# Altium footprint library TVI-30-RM6-LP.PcbLib: 12 footprints (part 1 of 2)
Each footprint in its own frame and in the unit in brackets; x right, y up, seen from the top. Pads: shape width x height; smd on the part's side, far side on the other; paste and mask are expansions set on the pad; w line width, h text height; cw(c..) or ccw(c..) is an arc to the next point about the centre after c.
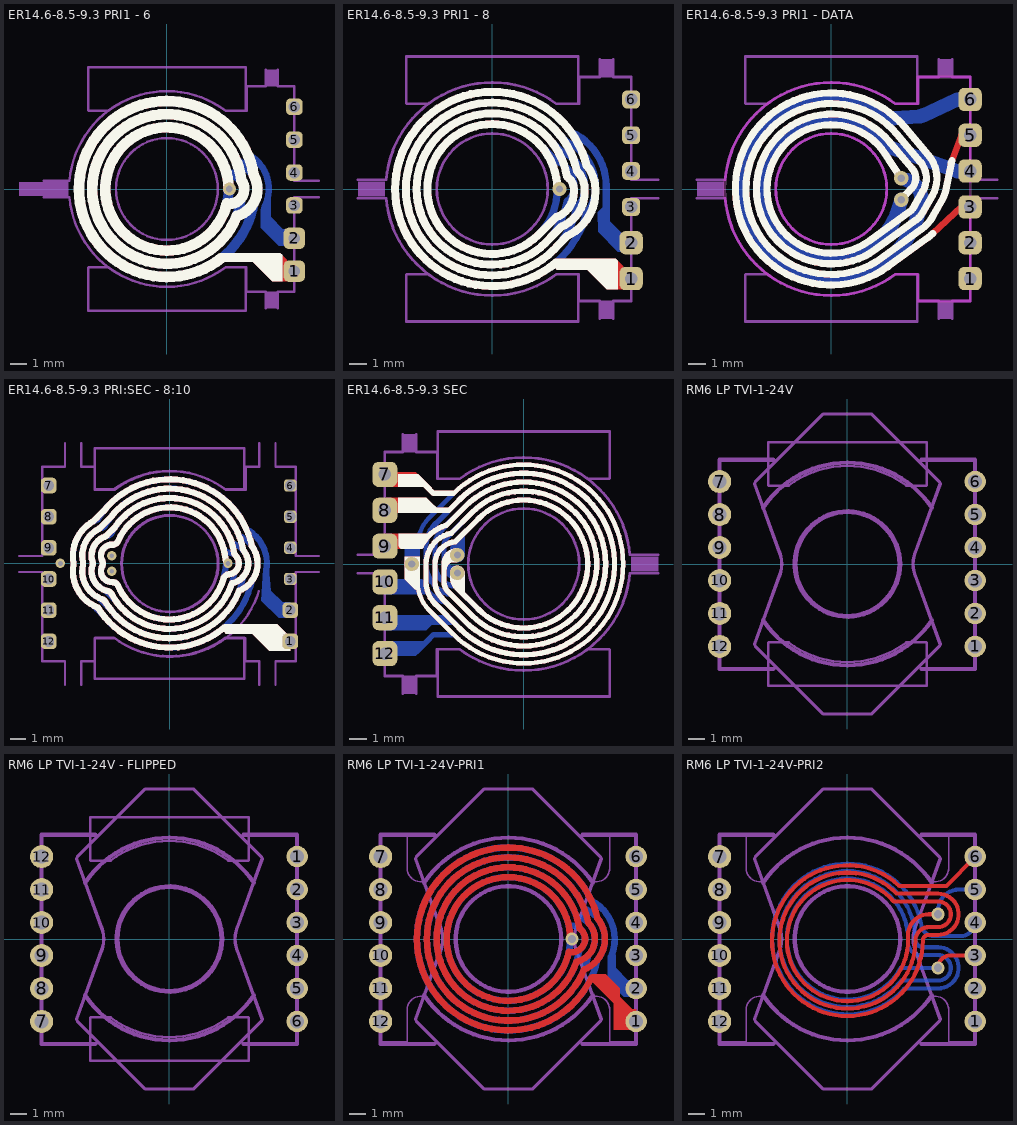
[diagram p0: the footprints below, top view; thin cyan lines are the x and y axes]

## ER14.6-8.5-9.3 PRI1 - 6 [mm]
pads (6):
  rrect50% 1.3x1.3 hole 0.7: 1(7.75,-5) 2(7.75,-3)
  rrect50% 1x1 hole 0.7: 3(7.75,-1) 4(7.75,1) 5(7.75,3) 6(7.75,5)
via 3.8,0 diameter 0.8 hole 0.4
Top Layer:
  region: 3.3,-3.9 6.9,-3.9 7.3,-4.3 7.3,-5.6 6.4,-5.6 5.225,-4.425 3.525,-4.425 3.3,-4.2
  lines w0.6: 3.309,-4.204 cw(c0,0) 5.282,0.851 ; 3.75,0 ccw(c0,0) 3.644,-0.886 ccw(c3.8,0) 4.519,0.542 ; 4.218,-1.707 cw(c0,0) 4.515,0.561 ; 4.254,-1.638 ccw(c3.8,0) 5.272,0.85
  text "1-A" at 5.3,5 h1
Bottom Layer:
  region: 5.7,-1.25 6.3,-0.65 6.3,-1.7 7.05,-2.45 7.55,-2.45 7.55,-3.45 6.8,-3.45 5.7,-2.35
  lines w0.4: 4.807,2.178 cw(c3.8,0) 6.038,-0.866 6.037,-0.868 cw(c3.8,0) 5.966,-1.035 5.958,-1.053 cw(c0,0) 5.901,-1.333
  lines w0.6: 3.75,0 cw(c0,0) 3.644,0.886 cw(c3.8,0) 4.519,-0.542 ; 4.218,1.707 ccw(c0,0) 4.515,-0.561 ; 4.254,1.638 cw(c3.8,0) 5.272,-0.85 ; 4.846,2.268 ccw(c0,0) 5.282,-0.851
  text "1-B" at 6.5,5 h1
Top Overlay:
  region: 3.3,-3.9 6.9,-3.9 7,-4 7,-5.6 6.4,-5.6 5.225,-4.425 3.525,-4.425 3.3,-4.2
  lines w0.65: 3.309,-4.204 cw(c0,0) 5.282,0.851 ; 3.75,0 ccw(c0,0) 3.644,-0.886 ccw(c3.8,0) 4.519,0.542 ; 4.218,-1.707 cw(c0,0) 4.515,0.561 ; 4.254,-1.638 ccw(c3.8,0) 5.272,0.85
Bottom Overlay:
  region: 5.7,-1.25 6.3,-0.65 6.3,-1.7 7.05,-2.45 7.55,-2.45 7.55,-3.45 6.8,-3.45 5.7,-2.35
  lines w0.55: 4.807,2.178 cw(c3.8,0) 6.038,-0.866 6.037,-0.868 cw(c3.8,0) 5.966,-1.035 5.958,-1.053 cw(c0,0) 5.901,-1.333
  lines w0.65: 3.75,0 cw(c0,0) 3.644,0.886 cw(c3.8,0) 4.519,-0.542 ; 4.218,1.707 ccw(c0,0) 4.515,-0.561 ; 4.254,1.638 cw(c3.8,0) 5.272,-0.85 ; 4.846,2.268 ccw(c0,0) 5.282,-0.851
Mechanical 1:
  region: 6,-6.25 6,-7.25 6.75,-7.25 6.75,-6.25
  region: 6.75,6.25 6.75,7.25 6,7.25 6,6.25
  region: -6,0.4 -9,0.4 -9,-0.4 -6,-0.4
Mechanical 2:
  circle w0.15: c0,0 r3.1
  lines w0.15: -7.5,-0.515 -5.928,-0.515 ccw(c0,0) 3.57,-4.76 4.825,-4.76 4.825,-6.25 6,-6.25 6,-7.25 ; -7.5,0.515 -5.928,0.515 cw(c0,0) 3.57,4.76 4.85,4.76 4.85,6.25 ; 4.825,6.25 6,6.25 6,7.25 ; 6.75,-7.25 6.75,-6.25 7.75,-6.25 7.75,-0.515 9.25,-0.515 ; 6.75,7.25 6.75,6.25 7.75,6.25 7.75,0.515 9.25,0.515
Mechanical 13:
  circle w0.15: c0,0 r3.1
  lines w0.15: -4.8,-7.4 4.8,-7.4 4.8,-4.79 4.77,-4.76 3.57,-4.76 cw(c0,0) -3.57,-4.76 -4.77,-4.76 -4.8,-4.79 -4.8,-7.4 ; -4.8,4.79 -4.8,7.4 4.8,7.4 4.8,4.79 4.77,4.76 3.57,4.76 ccw(c0,0) -3.57,4.76 -4.77,4.76 -4.8,4.79
3D body "ER14.6-8.5-9.3 (1).STEP": height 1.25, standoff -3, extent -4.7,-7.3 4.7,7.3

## ER14.6-8.5-9.3 PRI1 - 8 [mm]
pads (6):
  rrect50% 1.3x1.3 hole 0.7: 1(7.75,-5) 2(7.75,-3)
  rrect50% 1x1 hole 0.7: 3(7.75,-1) 4(7.75,1) 5(7.75,3) 6(7.75,5)
via 3.75,0 diameter 0.8 hole 0.4
Top Layer:
  region: 3.5,-3.9 6.9,-3.9 7.3,-4.3 7.3,-5.6 6.4,-5.6 5.3,-4.5 3.6,-4.5 3.5,-4.4
  lines w0.4: 3.513,-1.613 2.563,-2.563 cw(c0,0) -3.625,0 cw(c0,0) 0,3.625 cw(c0,0) 3.625,0 ; 3.54,-4.111 cw(c0,0) -5.425,0 cw(c0,0) 0,5.425 cw(c0,0) 5.26,1.328 ; 3.562,-1.579 ccw(c3.058,-0.166) 4.558,-0.166 4.558,-0.008 4.55,0 ccw(c3.75,0) 4.186,0.671 ; 3.841,-2.116 3.213,-2.743 cw(c0,0) -4.225,0 cw(c0,0) 0,4.225 cw(c0,0) 4.166,0.703 ; 3.863,-2.105 ccw(c3.058,-0.166) 5.158,-0.166 5.158,-0.008 5.15,0 ccw(c3.75,0) 4.727,1.002 ; 4.177,-2.627 3.663,-3.14 cw(c0,0) -4.825,0 cw(c0,0) 0,4.825 cw(c0,0) 4.715,1.023 ; 4.186,-2.619 ccw(c3.058,-0.166) 5.758,-0.166 5.758,-0.008 5.75,0 ccw(c3.75,0) 5.272,1.297
  text "1-A" at 5.325,5 h1
Bottom Layer:
  region: 5.9,-1.3 6.5,-0.7 6.5,-1.75 7.25,-2.5 7.75,-2.5 7.75,-3.5 7,-3.5 5.9,-2.4
  lines w0.4: 3.513,1.613 2.563,2.563 ccw(c0,0) -3.625,0 ccw(c0,0) 0,-3.625 ccw(c0,0) 3.625,0 ; 3.562,1.579 cw(c3.058,0.166) 4.558,0.166 4.558,0.008 4.55,0 cw(c3.75,0) 4.186,-0.671 ; 3.841,2.116 3.213,2.743 ccw(c0,0) -4.225,0 ccw(c0,0) 0,-4.225 ccw(c0,0) 4.166,-0.703 ; 3.863,2.105 cw(c3.058,0.166) 5.158,0.166 5.158,0.008 5.15,0 cw(c3.75,0) 4.727,-1.002 ; 4.177,2.627 3.663,3.14 ccw(c0,0) -4.825,0 ccw(c0,0) 0,-4.825 ccw(c0,0) 4.715,-1.023 ; 4.186,2.619 cw(c3.058,0.166) 5.758,0.166 5.758,0.008 5.75,0 cw(c3.75,0) 5.272,-1.297 ; 4.387,3.191 ccw(c0,0) -5.425,0 ccw(c0,0) 0,-5.425 ccw(c0,0) 5.26,-1.328 ; 4.402,3.18 cw(c3.058,0.166) 6.358,0.166 6.358,-1.958 6.7,-2.3
  text "1-B" at 6.5,5 h1
Top Overlay:
  region: 3.5,-3.9 6.9,-3.9 7,-4 7,-5.6 6.4,-5.6 5.3,-4.5 3.6,-4.5 3.5,-4.4
  lines w0.45: 3.513,-1.613 2.563,-2.563 cw(c0,0) -3.625,0 cw(c0,0) 0,3.625 cw(c0,0) 3.625,0 ; 3.54,-4.111 cw(c0,0) -5.425,0 cw(c0,0) 0,5.425 cw(c0,0) 5.26,1.328 ; 3.562,-1.579 ccw(c3.058,-0.166) 4.558,-0.166 4.558,-0.008 4.55,0 ccw(c3.75,0) 4.186,0.671 ; 3.841,-2.116 3.213,-2.743 cw(c0,0) -4.225,0 cw(c0,0) 0,4.225 cw(c0,0) 4.166,0.703 ; 3.863,-2.105 ccw(c3.058,-0.166) 5.158,-0.166 5.158,-0.008 5.15,0 ccw(c3.75,0) 4.727,1.002 ; 4.177,-2.627 3.663,-3.14 cw(c0,0) -4.825,0 cw(c0,0) 0,4.825 cw(c0,0) 4.715,1.023 ; 4.186,-2.619 ccw(c3.058,-0.166) 5.758,-0.166 5.758,-0.008 5.75,0 ccw(c3.75,0) 5.272,1.297
Bottom Overlay:
  region: 5.9,-1.3 6.5,-0.7 6.5,-1.75 7.25,-2.5 7.75,-2.5 7.75,-3.5 7,-3.5 5.9,-2.4
  lines w0.45: 3.513,1.613 2.563,2.563 ccw(c0,0) -3.625,0 ccw(c0,0) 0,-3.625 ccw(c0,0) 3.625,0 ; 3.562,1.579 cw(c3.058,0.166) 4.558,0.166 4.558,0.008 4.55,0 cw(c3.75,0) 4.186,-0.671 ; 3.841,2.116 3.213,2.743 ccw(c0,0) -4.225,0 ccw(c0,0) 0,-4.225 ccw(c0,0) 4.166,-0.703 ; 3.863,2.105 cw(c3.058,0.166) 5.158,0.166 5.158,0.008 5.15,0 cw(c3.75,0) 4.727,-1.002 ; 4.177,2.627 3.663,3.14 ccw(c0,0) -4.825,0 ccw(c0,0) 0,-4.825 ccw(c0,0) 4.715,-1.023 ; 4.186,2.619 cw(c3.058,0.166) 5.758,0.166 5.758,0.008 5.75,0 cw(c3.75,0) 5.272,-1.297 ; 4.387,3.191 ccw(c0,0) -5.425,0 ccw(c0,0) 0,-5.425 ccw(c0,0) 5.26,-1.328 ; 4.402,3.18 cw(c3.058,0.166) 6.358,0.166 6.358,-1.958 6.7,-2.3
Mechanical 1:
  region: -6,0.4 -7.5,0.4 -7.5,-0.4 -6,-0.4
  region: 6.75,6.25 6.75,7.25 6,7.25 6,6.25
  region: 6,-6.25 6,-7.25 6.75,-7.25 6.75,-6.25
Mechanical 2:
  circle w0.15: c0,0 r3.1
  lines w0.15: -7.5,-0.515 -5.928,-0.515 ccw(c0,0) 3.57,-4.76 4.825,-4.76 4.825,-6.25 6,-6.25 6,-7.25 ; -7.5,0.515 -5.928,0.515 cw(c0,0) 3.57,4.76 4.85,4.76 4.85,6.25 ; 4.825,6.25 6,6.25 6,7.25 ; 6.75,-7.25 6.75,-6.25 7.75,-6.25 7.75,-0.515 9.25,-0.515 ; 6.75,7.25 6.75,6.25 7.75,6.25 7.75,0.515 9.25,0.515
Mechanical 13:
  circle w0.15: c0,0 r3.1
  lines w0.15: -4.8,-7.4 -4.8,-4.79 -4.77,-4.76 -3.57,-4.76 ccw(c0,0) 3.57,-4.76 4.77,-4.76 4.8,-4.79 4.8,-7.4 -4.8,-7.4 ; -4.8,4.79 -4.77,4.76 -3.57,4.76 cw(c0,0) 3.57,4.76 4.77,4.76 4.8,4.79 4.8,7.4 -4.8,7.4 -4.8,4.79
3D body "ER14.6-8.5-9.3 (1).STEP": height 1.25, standoff -3, extent -4.7,-7.3 4.7,7.3

## ER14.6-8.5-9.3 PRI1 - DATA [mm]
pads (6):
  rrect50% 1.3x1.3 hole 0.7: 1(7.75,-5) 2(7.75,-3) 3(7.75,-1) 4(7.75,1) 5(7.75,3) 6(7.75,5)
via 3.9,0.6 diameter 0.8 hole 0.4
via 3.9,-0.6 diameter 0.8 hole 0.4
Top Layer:
  lines w0.35: 1.849,3.077 cw(c0,0) 3.004,1.966 3.004,1.965 ; 3.9,-0.6 4.498,0.046 ccw(c3.9,0.6) 4.521,1.128 3.193,2.698 ccw(c0,0) 2.454,-3.384 4.724,-1.738 ccw(c3.9,-0.6) 5.123,-1.291 5.637,-0.382 ccw(c3.9,0.6) 5.422,1.89 4.093,3.46 ccw(c0,0) 3.149,-4.337 5.417,-2.693 ccw(c3.9,-0.6) 5.664,-2.49 7.26,-1 ; 3.9,0.6 3.004,1.965 ; 7.75,3 7.26,3 6.732,1.584 ccw(c7.425,1.325) 6.698,1.465 6.439,0.112 cw(c3.9,0.6) 6.151,-0.671 5.638,-1.58 cw(c3.9,-0.6) 5.071,-2.215 2.802,-3.86 cw(c0,0) 3.645,3.077 4.971,1.509 cw(c3.9,0.6) 5.123,-0.091 4.61,-1.001 cw(c3.9,-0.6) 4.378,-1.26 2.107,-2.906 cw(c0,0) 3.004,1.965
  text "3-A" at 5.25,5 h1
Bottom Layer:
  lines w0.8: 3.9,-0.6 3.766,-1.071 cw(c0,0) 2.979,2.54 ; 4.255,0.483 cw(c3.9,-0.6) 4.996,-0.913 4.862,-1.383 cw(c0,0) 4.617,-2.058 cw(c0,0) -2.146,-4.577 cw(c0,0) 2.959,4.099 ; 7.035,1 3.323,2.304 cw(c3.588,3.059) 2.979,2.54 ; 7.035,5 5.127,4.112 cw(c4.825,4.76) 4.875,4.047 3.483,3.949 cw(c3.427,4.747) 2.959,4.099 ; 2.959,4.099 2.959,4.099 ; 2.979,2.54 2.979,2.54
  text "3-B" at 6.5,-5 h1
Top Overlay:
  lines w0.4: 1.849,3.077 cw(c0,0) 3.004,1.966 3.004,1.965 ; 3.9,-0.6 4.498,0.046 ccw(c3.9,0.6) 4.521,1.128 3.193,2.698 ccw(c0,0) 2.454,-3.384 4.724,-1.738 ccw(c3.9,-0.6) 5.123,-1.291 5.637,-0.382 ccw(c3.9,0.6) 5.422,1.89 4.093,3.46 ccw(c0,0) 3.149,-4.337 5.417,-2.693 ccw(c3.9,-0.6) 5.664,-2.49 ; 3.9,0.6 3.004,1.965 ; 6.732,1.584 ccw(c7.425,1.325) 6.698,1.465 6.439,0.112 cw(c3.9,0.6) 6.151,-0.671 5.638,-1.58 cw(c3.9,-0.6) 5.071,-2.215 2.802,-3.86 cw(c0,0) 3.645,3.077 4.971,1.509 cw(c3.9,0.6) 5.123,-0.091 4.61,-1.001 cw(c3.9,-0.6) 4.378,-1.26 2.107,-2.906 cw(c0,0) 3.004,1.965
Bottom Overlay:
  lines w0.85: 3.9,-0.6 3.766,-1.071 cw(c0,0) 2.979,2.54 ; 4.255,0.483 cw(c3.9,-0.6) 4.996,-0.913 4.862,-1.383 cw(c0,0) 4.617,-2.058 cw(c0,0) -2.146,-4.577 cw(c0,0) 2.959,4.099 ; 5.127,4.112 cw(c4.825,4.76) 4.875,4.047 3.483,3.949 cw(c3.427,4.747) 2.959,4.099 ; 6.481,1.195 3.323,2.304 cw(c3.588,3.059) 2.979,2.54 ; 2.959,4.099 2.959,4.099 ; 2.979,2.54 2.979,2.54
Keep-Out Layer:
  circle w0.15: c0,0 r3.1
  lines w0.15: 3.57,-4.76 cw(c0,0) 3.57,4.76 4.825,4.76 4.825,6.25 7.75,6.25 7.75,0 7.75,-6.25 4.85,-6.25 4.85,-4.76 3.57,-4.76
Mechanical 1:
  region: 6,-6.25 6,-7.25 6.75,-7.25 6.75,-6.25
  region: 6.75,6.25 6.75,7.25 6,7.25 6,6.25
  region: -6,0.4 -7.5,0.4 -7.5,-0.4 -6,-0.4
Mechanical 2:
  circle w0.15: c0,0 r3.1
  lines w0.15: -7.5,-0.515 -5.928,-0.515 ccw(c0,0) 3.57,-4.76 4.825,-4.76 4.825,-6.25 6,-6.25 6,-7.25 ; -7.5,0.515 -5.928,0.515 cw(c0,0) 3.57,4.76 4.85,4.76 4.85,6.25 ; 4.825,6.25 6,6.25 6,7.25 ; 6.75,-7.25 6.75,-6.25 7.75,-6.25 7.75,-0.515 9.25,-0.515 ; 6.75,7.25 6.75,6.25 7.75,6.25 7.75,0.515 9.25,0.515
Mechanical 13:
  circle w0.15: c0,0 r3.1
  lines w0.15: -4.8,-7.4 4.8,-7.4 4.8,-4.79 4.77,-4.76 3.57,-4.76 cw(c0,0) -3.57,-4.76 -4.77,-4.76 -4.8,-4.79 -4.8,-7.4 ; -4.8,4.79 -4.8,7.4 4.8,7.4 4.8,4.79 4.77,4.76 3.57,4.76 ccw(c0,0) -3.57,4.76 -4.77,4.76 -4.8,4.79
3D body "ER14.6-8.5-9.3 (1).STEP": height 1.25, standoff -3, extent -4.7,-7.3 4.7,7.3

## ER14.6-8.5-9.3 PRI:SEC - 8:10 [mm]
pads (12):
  rrect50% 1x1 hole 0.7: 1(7.75,-5) 2(7.75,-3) 7(-7.75,5) 8(-7.75,3) 9(-7.75,1) 10(-7.75,-1) 11(-7.75,-3) 12(-7.75,-5)
  rrect50% 0.8x0.8 hole 0.7: 3(7.75,-1) 4(7.75,1) 5(7.75,3) 6(7.75,5)
via -3.7,-0.5 diameter 0.6 hole 0.3
via -7,0 diameter 0.6 hole 0.3
via 3.75,0 diameter 0.6 hole 0.3
via -3.7,0.5 diameter 0.6 hole 0.3
Top Layer:
  region: 3.5,-3.9 6.9,-3.9 7.75,-4.75 7.75,-5.6 6.4,-5.6 5.3,-4.5 3.6,-4.5 3.5,-4.4
  lines w0.4: -5.599,0.444 cw(c-3.7,0.5) -4.65,2.146 ; -5.585,0.742 ccw(c-3.7,0.5) -5.554,0.087 cw(c-5.945,0) -5.554,-0.087 ccw(c-3.7,-0.5) -4.33,-2.293 cw(c-4.462,-2.67) -4.119,-2.465 ccw(c0,0) -3.907,-2.789 ; -4.775,2.067 cw(c-3.7,0.5) -4.583,2.182 ccw(c-4.769,2.537) -4.486,2.254 -3.775,2.965 cw(c0,0) 3.101,3.664 cw(c0,0) 4.703,0.96 ; -3.932,-2.753 ccw(c0,0) 3.677,-3.085 ccw(c2.183,-1.591) 4.063,-2.556 ccw(c0,0) 4.466,-1.76 ccw(c3.75,0) 5.282,1.124 ccw(c0,0) 0.46,5.38 ccw(c0,0) -4.21,3.381 cw(c-4.522,3.632) -4.24,3.348 -4.666,2.922 -4.889,2.699 ccw(c-3.7,0.5) -6.199,0.426 ; 3.481,-4.128 cw(c0,0) -4.597,-2.833 cw(c-3.7,-0.5) -6.165,-0.081 ccw(c-6.559,-0.014) -6.165,0.058 cw(c-4.148,0.426) -6.199,0.426 ; 3.75,0 cw(c3.987,0.322) 3.588,0.29 ; -6.199,0.426 -6.199,0.426 ; -4.999,0.462 cw(c-3.7,0.5) -4.156,1.717 ; -4.999,0.462 ccw(c-3.7,0.5) -4.942,0.118 cw(c-5.325,0) -4.942,-0.118 ; -4.999,0.462 -4.999,0.462 ; -4.942,-0.118 ccw(c-3.7,-0.5) -4.099,-1.737 ccw(c-3.7,-0.5) -3.976,-1.77 cw(c-4.061,-2.161) -3.708,-1.973 ccw(c0,0) 4.002,-1.275 ccw(c3.75,0) 4.779,0.795 cw(c5.095,1.04) 4.703,0.96 ; -4.942,-0.118 -4.942,-0.118 ; -4.156,1.717 ccw(c-4.297,2.092) -4.014,1.809 -3.497,2.326 cw(c0,0) 4.141,0.704 ; -4.156,1.717 -4.156,1.717 ; -3.679,-1.2 cw(c-3.666,-1.599) -3.3,-1.439 ccw(c0,0) 2.55,-2.541 ccw(c0,0) 3.462,-0.986 ; -3.679,-1.2 cw(c-3.7,-0.5) -4.323,-0.182 ccw(c-4.68,0) -4.323,0.182 cw(c-3.7,0.5) -4.345,0.772 cw(c-3.7,0.5) -3.678,1.2 ccw(c-3.666,1.6) -3.3,1.44 cw(c0,0) 3.588,0.29 ; -3.679,-1.2 -3.679,-1.2 ; 3.462,-0.986 cw(c3.847,-1.096) 3.812,-0.697 ; 3.462,-0.986 3.462,-0.986 ; 3.588,0.29 3.588,0.29 ; 3.812,-0.697 ccw(c3.75,0) 4.25,0.49 ; 3.812,-0.697 3.812,-0.697 ; 4.141,0.704 ccw(c4.535,0.771) 4.25,0.49 ; 4.141,0.704 4.141,0.704 ; 4.25,0.49 4.25,0.49 ; 4.703,0.96 4.703,0.96 ; 2.438,-4.818 2.438,-4.818
  text "1-A" at 5.325,5 h1
  text "1-A" at 5.325,5 h1
Layer 1:
  region: -3.7,0.1 -3.62,0.1 -3.473,0.161 -3.361,0.273 -3.3,0.42 -3.3,0.5 -3.3,1.7 -3.425,1.825 -3.829,1.421 -3.894,1.356 -3.995,1.205 -4.064,1.037 -4.1,0.858 -4.1,0.767 -4.1,0.5 -4.1,0.42 -4.039,0.273 -3.927,0.161 -3.78,0.1
  region: -7.736,-3.487 -5.223,-3.487 -4.636,-2.9 -7.336,-2.9 -7.736,-3.3
  region: -7.746,-1.487 -5.599,-1.487 -5.286,-1.8 -5.286,-1.576 -5.875,-0.986 -7.736,-0.986
  region: -4.3,0.3 -4.292,0.222 -4.233,0.078 -4.122,-0.033 -3.978,-0.092 -3.9,-0.1 -3.3,-0.1 -3.3,-0.777 -3.374,-0.826 -3.543,-0.886 -3.721,-0.902 -3.898,-0.873 -4.062,-0.802 -4.203,-0.693 -4.313,-0.552 -4.385,-0.388 -4.4,-0.3 -4.4,0.3
  region: -7.746,-4.512 -5.812,-4.512 -5.136,-3.836 -5.136,-4.261 -5.888,-5.014 -7.736,-5.014
  lines w0.25: -7,0 -6.718,0 ; -6.693,-0.026 -6.021,0.646 ccw(c-6.249,0.873) -5.927,0.873 -5.927,0.99 cw(c-3.677,0.99) -5.268,2.581 -3.924,3.924 cw(c0,0) 3.924,3.924 ; -3.924,-3.924 ccw(c0,0) 4.906,-2.595 ; 5.051,-2.299 cw(c0,0) 4.906,-2.595 ; 5.063,-2.273 ccw(c3.75,0) 5.063,2.273 ccw(c0,0) 3.924,3.924 ; 3.924,3.924 3.924,3.924 ; 4.906,-2.595 4.906,-2.595 ; 4.906,-2.595 4.906,-2.595
  lines w0.3: -7.75,-5 -6.086,-5 -5.028,-3.942 -3.942,-3.942 ; -7.75,-3 -4.177,-3 -3.758,-3.419 ; -7.736,-0.987 -5.722,-0.987 ccw(c-3.7,0) -4.32,-2.163 ; -7.5,-3.25 -3.927,-3.25 -3.589,-3.589 ccw(c0,0) 4.586,-2.174 ccw(c0,0) 4.67,-1.986 ccw(c2.578,0.012) 4.743,-1.907 ccw(c3.75,0) 4.786,1.884 ; -4.937,2.237 ccw(c-3.7,1) -5.45,1 -5.45,0 ccw(c-3.7,0) -4.049,-1.715 ; -4.932,2.245 -3.589,3.588 cw(c0,0) 3.589,3.588 3.59,3.587 cw(c0,0) 4.65,2.033 ; -4.584,1.884 ccw(c-3.7,1) -4.95,1 -4.95,0 ccw(c-3.7,0) -3.809,-1.245 ; -4.579,1.891 -3.235,3.235 cw(c0,0) 3.235,3.235 3.236,3.233 cw(c0,0) 4.223,1.759 ; -4.45,0.225 -4.45,0 ccw(c-3.7,0) -3.765,-0.747 ; -4.296,-2.174 -3.235,-3.235 ccw(c0,0) 4.134,-1.96 ccw(c0,0) 4.246,-1.705 4.269,-1.682 ccw(c2.578,0.012) 4.391,-1.55 ; -4.23,1.53 ccw(c-3.7,1) -4.45,1 ; -4.225,1.538 -2.881,2.881 cw(c0,0) 2.881,2.881 2.882,2.881 cw(c0,0) 3.795,1.483 ; -4.045,-1.718 -2.881,-2.882 ccw(c0,0) 3.707,-1.692 ccw(c0,0) 3.818,-1.426 3.917,-1.327 ccw(c2.578,0.012) 4.069,-1.155 ; -3.81,-1.246 -2.528,-2.528 ccw(c0,0) 3.384,-1.152 3.563,-0.973 ccw(c2.578,0.012) 3.742,-0.754 ; -3.7,-0.5 cw(c-3.7,0.25) -4.45,0.25 -4.45,1 ; -3.7,0.5 -3.7,1.356 -2.528,2.528 cw(c0,0) 3.384,1.152 3.563,0.973 cw(c2.578,-0.012) 3.742,0.754 ; -3.7,1.05 cw(c-2.95,1.05) -3.528,1.528 ; 4.293,-1.657 ccw(c2.578,0.012) 4.391,-1.55 ; 4.399,-0.035 ccw(c3.75,0) 3.916,0.629 ; 4.399,0.035 cw(c3.75,0) 3.916,-0.628 ; -4.45,1 -4.45,1 ; 3.742,-0.754 cw(c3.992,-0.919) 3.916,-0.628 ; 3.742,-0.754 3.742,-0.754 ; 3.742,0.754 ccw(c3.992,0.919) 3.916,0.628 ; 3.742,0.754 3.742,0.754 ; 3.795,1.483 ccw(c4.075,1.593) 3.863,1.38 3.916,1.328 cw(c2.578,-0.012) 4.069,1.155 ; 3.795,1.483 3.795,1.483 ; 3.916,-0.628 3.916,-0.628 ; 3.916,0.628 3.916,0.629 ; 4.069,-1.155 cw(c4.305,-1.34) 4.19,-1.062 ccw(c3.75,0) 4.19,1.062 ; 4.069,-1.155 4.069,-1.155 ; 4.069,1.155 ccw(c4.305,1.34) 4.19,1.062 ; 4.069,1.155 4.069,1.155 ; 4.19,1.062 4.19,1.062 ; 4.223,1.759 ccw(c4.5,1.874) 4.286,1.664 ; 4.223,1.759 4.223,1.759 ; 4.286,1.664 cw(c2.578,-0.012) 4.391,1.55 ; 4.286,1.664 4.286,1.664 ; 4.391,-1.55 cw(c4.618,-1.746) 4.484,-1.478 ccw(c3.75,0) 4.484,1.478 ; 4.391,-1.55 4.391,-1.55 ; 4.391,1.55 ccw(c4.618,1.746) 4.484,1.478 ; 4.391,1.55 4.391,1.55 ; 4.484,1.478 4.484,1.478 ; 4.65,2.033 ccw(c4.925,2.153) 4.704,1.95 4.711,1.943 ccw(c4.931,2.147) 4.786,1.884 ; 4.65,2.033 4.65,2.033 ; 4.786,1.884 4.786,1.884
Layer 2:
  region: -3.7,-0.1 -3.62,-0.1 -3.473,-0.161 -3.361,-0.273 -3.3,-0.42 -3.3,-0.5 -3.3,-1.7 -3.425,-1.825 -3.829,-1.421 -3.894,-1.356 -3.995,-1.205 -4.064,-1.037 -4.1,-0.858 -4.1,-0.767 -4.1,-0.5 -4.1,-0.42 -4.039,-0.273 -3.927,-0.161 -3.78,-0.1
  region: -4.3,-0.3 -4.292,-0.222 -4.233,-0.078 -4.122,0.033 -3.978,0.092 -3.9,0.1 -3.3,0.1 -3.3,0.777 -3.374,0.826 -3.543,0.886 -3.721,0.902 -3.898,0.873 -4.062,0.802 -4.203,0.693 -4.313,0.552 -4.385,0.388 -4.4,0.3 -4.4,-0.3
  region: -7.746,1.487 -5.599,1.487 -5.286,1.8 -5.286,1.576 -5.875,0.986 -7.736,0.986
  region: -7.736,3.487 -5.223,3.487 -4.636,2.9 -7.336,2.9 -7.736,3.3
  region: -7.746,4.512 -5.812,4.512 -5.136,3.836 -5.136,4.261 -5.888,5.014 -7.736,5.014
  lines w0.25: -7,0 -6.718,0 ; -6.693,0.026 -6.021,-0.646 cw(c-6.249,-0.873) -5.927,-0.873 -5.927,-0.99 ccw(c-3.677,-0.99) -5.268,-2.581 -3.924,-3.924 ccw(c0,0) 3.924,-3.924 ; -3.924,3.924 cw(c0,0) 4.906,2.595 ; 5.051,2.299 ccw(c0,0) 4.906,2.595 ; 5.063,2.273 cw(c3.75,0) 5.063,-2.273 cw(c0,0) 3.924,-3.924 ; 3.924,-3.924 3.924,-3.924 ; 4.906,2.595 4.906,2.595 ; 4.906,2.595 4.906,2.595
  lines w0.3: -7.75,3 -4.177,3 -3.758,3.419 ; -7.75,5 -6.086,5 -5.028,3.942 -3.942,3.942 ; -7.736,0.987 -5.722,0.987 cw(c-3.7,0) -4.32,2.163 ; -7.5,3.25 -3.927,3.25 -3.589,3.589 cw(c0,0) 4.586,2.174 cw(c0,0) 4.67,1.986 cw(c2.578,-0.012) 4.743,1.907 cw(c3.75,0) 4.786,-1.884 ; -4.937,-2.237 cw(c-3.7,-1) -5.45,-1 -5.45,0 cw(c-3.7,0) -4.049,1.715 ; -4.932,-2.245 -3.589,-3.588 ccw(c0,0) 3.589,-3.588 3.59,-3.587 ccw(c0,0) 4.65,-2.033 ; -4.584,-1.884 cw(c-3.7,-1) -4.95,-1 -4.95,0 cw(c-3.7,0) -3.809,1.245 ; -4.579,-1.891 -3.235,-3.235 ccw(c0,0) 3.235,-3.235 3.236,-3.233 ccw(c0,0) 4.223,-1.759 ; -4.45,-0.225 -4.45,0 cw(c-3.7,0) -3.765,0.747 ; -4.296,2.174 -3.235,3.235 cw(c0,0) 4.134,1.96 cw(c0,0) 4.246,1.705 4.269,1.682 cw(c2.578,-0.012) 4.391,1.55 ; -4.23,-1.53 cw(c-3.7,-1) -4.45,-1 ; -4.225,-1.538 -2.881,-2.881 ccw(c0,0) 2.881,-2.881 2.882,-2.881 ccw(c0,0) 3.795,-1.483 ; -4.045,1.718 -2.881,2.882 cw(c0,0) 3.707,1.692 cw(c0,0) 3.818,1.426 3.917,1.327 cw(c2.578,-0.012) 4.069,1.155 ; -3.81,1.246 -2.528,2.528 cw(c0,0) 3.384,1.152 3.563,0.973 cw(c2.578,-0.012) 3.742,0.754 ; -3.7,-1.05 ccw(c-2.95,-1.05) -3.528,-1.528 ; -3.7,-0.5 -3.7,-1.356 -2.528,-2.528 ccw(c0,0) 3.384,-1.152 3.563,-0.973 ccw(c2.578,0.012) 3.742,-0.754 ; -3.7,0.5 ccw(c-3.7,-0.25) -4.45,-0.25 -4.45,-1 ; 4.293,1.657 cw(c2.578,-0.012) 4.391,1.55 ; 4.399,-0.035 ccw(c3.75,0) 3.916,0.629 ; 4.399,0.035 cw(c3.75,0) 3.916,-0.628 ; -4.45,-1 -4.45,-1 ; 3.742,-0.754 cw(c3.992,-0.919) 3.916,-0.628 ; 3.742,-0.754 3.742,-0.754 ; 3.742,0.754 ccw(c3.992,0.919) 3.916,0.628 ; 3.742,0.754 3.742,0.754 ; 3.795,-1.483 cw(c4.075,-1.593) 3.863,-1.38 3.916,-1.328 ccw(c2.578,0.012) 4.069,-1.155 ; 3.795,-1.483 3.795,-1.483 ; 3.916,-0.628 3.916,-0.628 ; 3.916,0.628 3.916,0.629 ; 4.069,-1.155 cw(c4.305,-1.34) 4.19,-1.062 ; 4.069,-1.155 4.069,-1.155 ; 4.069,1.155 ccw(c4.305,1.34) 4.19,1.062 cw(c3.75,0) 4.19,-1.062 ; 4.069,1.155 4.069,1.155 ; 4.19,-1.062 4.19,-1.062 ; 4.223,-1.759 cw(c4.5,-1.874) 4.286,-1.664 ; 4.223,-1.759 4.223,-1.759 ; 4.286,-1.664 ccw(c2.578,0.012) 4.391,-1.55 ; 4.286,-1.664 4.286,-1.664 ; 4.391,-1.55 cw(c4.618,-1.746) 4.484,-1.478 ; 4.391,-1.55 4.391,-1.55 ; 4.391,1.55 ccw(c4.618,1.746) 4.484,1.478 cw(c3.75,0) 4.484,-1.478 ; 4.391,1.55 4.391,1.55 ; 4.484,-1.478 4.484,-1.478 ; 4.65,-2.033 cw(c4.925,-2.153) 4.704,-1.95 4.711,-1.943 cw(c4.931,-2.147) 4.786,-1.884 ; 4.65,-2.033 4.65,-2.033 ; 4.786,-1.884 4.786,-1.884
Bottom Layer:
  region: 6.026,-0.347 6.296,0.463 6.5,-1.75 7.25,-2.5 7.75,-2.5 7.75,-3.5 7,-3.5 5.9,-2.4
  lines w0.3: -7.75,-3 -7.5,-3.25
  lines w0.4: -5.599,-0.444 ccw(c-3.7,-0.5) -4.65,-2.146 ; -5.585,-0.742 cw(c-3.7,-0.5) -5.554,-0.087 ccw(c-5.945,0) -5.554,0.087 cw(c-3.7,0.5) -4.33,2.293 ccw(c-4.462,2.67) -4.119,2.465 cw(c0,0) -3.907,2.789 ; -4.775,-2.067 ccw(c-3.7,-0.5) -4.583,-2.182 cw(c-4.769,-2.537) -4.486,-2.254 -3.775,-2.965 ccw(c0,0) 3.101,-3.664 ccw(c0,0) 4.703,-0.96 ; -3.932,2.753 cw(c0,0) 3.677,3.085 cw(c2.183,1.591) 4.063,2.556 cw(c0,0) 4.466,1.76 cw(c3.75,0) 5.282,-1.124 cw(c0,0) 0.46,-5.38 cw(c0,0) -4.21,-3.381 ccw(c-4.522,-3.632) -4.24,-3.348 -4.666,-2.922 -4.889,-2.699 cw(c-3.7,-0.5) -6.199,-0.426 ; 3.75,0 ccw(c3.987,-0.322) 3.588,-0.29 ; 6.215,-0.42 ccw(c3.75,0) 4.93,2.204 ccw(c0,0) 4.591,2.843 ; 6.358,-1.958 6.7,-2.3 ; -6.199,-0.426 cw(c-4.148,-0.426) -6.165,-0.058 ccw(c-6.559,0.014) -6.165,0.081 cw(c-3.7,0.5) -4.597,2.833 cw(c0,0) 4.112,3.501 ; -6.199,-0.426 -6.199,-0.426 ; -4.999,-0.462 cw(c-3.7,-0.5) -4.942,-0.118 ccw(c-5.325,0) -4.942,0.118 ; -4.999,-0.462 ccw(c-3.7,-0.5) -4.156,-1.717 ; -4.999,-0.462 -4.999,-0.462 ; -4.942,0.118 cw(c-3.7,0.5) -4.099,1.737 cw(c-3.7,0.5) -3.976,1.77 ccw(c-4.061,2.161) -3.708,1.973 cw(c0,0) 4.002,1.275 cw(c3.75,0) 4.779,-0.795 ccw(c5.095,-1.04) 4.703,-0.96 ; -4.942,0.118 -4.942,0.118 ; -4.156,-1.717 cw(c-4.297,-2.092) -4.014,-1.809 -3.497,-2.326 ccw(c0,0) 4.141,-0.704 ; -4.156,-1.717 -4.156,-1.717 ; -3.679,1.2 ccw(c-3.7,0.5) -4.323,0.182 cw(c-4.68,0) -4.323,-0.182 ccw(c-3.7,-0.5) -4.345,-0.772 ccw(c-3.7,-0.5) -3.678,-1.2 cw(c-3.666,-1.6) -3.3,-1.44 ccw(c0,0) 3.588,-0.29 ; -3.679,1.2 ccw(c-3.666,1.599) -3.3,1.439 cw(c0,0) 2.55,2.541 cw(c0,0) 3.462,0.986 ; -3.679,1.2 -3.679,1.2 ; 3.462,0.986 ccw(c3.847,1.096) 3.812,0.697 ; 3.462,0.986 3.462,0.986 ; 3.588,-0.29 3.588,-0.29 ; 3.812,0.697 cw(c3.75,0) 4.25,-0.49 ; 3.812,0.697 3.812,0.697 ; 4.108,3.504 cw(c0,0) 4.112,3.501 ; 4.108,3.504 4.108,3.504 ; 4.112,3.501 ccw(c4.416,3.76) 4.129,3.481 ; 4.112,3.501 4.112,3.501 ; 4.129,3.481 cw(c2.183,1.591) 4.578,2.866 ; 4.129,3.481 4.129,3.481 ; 4.141,-0.704 cw(c4.535,-0.771) 4.25,-0.49 ; 4.141,-0.704 4.141,-0.704 ; 4.25,-0.49 4.25,-0.49 ; 4.578,2.866 ccw(c4.931,3.054) 4.591,2.843 ; 4.578,2.866 4.578,2.866 ; 4.591,2.843 4.591,2.843 ; 4.703,-0.96 4.703,-0.96 ; 2.438,4.818 2.438,4.818
  text "1-B" at 6.5,5 h1
  text "1-B" at 6.5,5 h1
Top Overlay:
  region: 3.5,-3.9 6.9,-3.9 7.75,-4.75 7.75,-5.6 6.4,-5.6 5.3,-4.5 3.6,-4.5 3.5,-4.4
  lines w0.4: -5.599,0.444 cw(c-3.7,0.5) -4.65,2.146 ; -5.585,0.742 ccw(c-3.7,0.5) -5.554,0.087 cw(c-5.945,0) -5.554,-0.087 ccw(c-3.7,-0.5) -4.33,-2.293 cw(c-4.462,-2.67) -4.119,-2.465 ccw(c0,0) -3.907,-2.789 ; -4.775,2.067 cw(c-3.7,0.5) -4.583,2.182 ccw(c-4.769,2.537) -4.486,2.254 -3.775,2.965 cw(c0,0) 3.101,3.664 cw(c0,0) 4.703,0.96 ; -3.932,-2.753 ccw(c0,0) 3.677,-3.085 ccw(c2.183,-1.591) 4.063,-2.556 ccw(c0,0) 4.466,-1.76 ccw(c3.75,0) 5.282,1.124 ccw(c0,0) 0.46,5.38 ccw(c0,0) -4.21,3.381 cw(c-4.522,3.632) -4.24,3.348 -4.666,2.922 -4.889,2.699 ccw(c-3.7,0.5) -6.199,0.426 ; 3.481,-4.128 cw(c0,0) -4.597,-2.833 cw(c-3.7,-0.5) -6.165,-0.081 ccw(c-6.559,-0.014) -6.165,0.058 cw(c-4.148,0.426) -6.199,0.426 ; 3.75,0 cw(c3.987,0.322) 3.588,0.29 ; -6.199,0.426 -6.199,0.426 ; -4.999,0.462 cw(c-3.7,0.5) -4.156,1.717 ; -4.999,0.462 ccw(c-3.7,0.5) -4.942,0.118 cw(c-5.325,0) -4.942,-0.118 ; -4.999,0.462 -4.999,0.462 ; -4.942,-0.118 ccw(c-3.7,-0.5) -4.099,-1.737 ccw(c-3.7,-0.5) -3.976,-1.77 cw(c-4.061,-2.161) -3.708,-1.973 ccw(c0,0) 4.002,-1.275 ccw(c3.75,0) 4.779,0.795 cw(c5.095,1.04) 4.703,0.96 ; -4.942,-0.118 -4.942,-0.118 ; -4.156,1.717 ccw(c-4.297,2.092) -4.014,1.809 -3.497,2.326 cw(c0,0) 4.141,0.704 ; -4.156,1.717 -4.156,1.717 ; -3.679,-1.2 cw(c-3.7,-0.5) -4.323,-0.182 ccw(c-4.68,0) -4.323,0.182 cw(c-3.7,0.5) -4.345,0.772 cw(c-3.7,0.5) -3.678,1.2 ccw(c-3.666,1.6) -3.3,1.44 cw(c0,0) 3.588,0.29 ; -3.679,-1.2 cw(c-3.666,-1.599) -3.3,-1.439 ccw(c0,0) 2.55,-2.541 ccw(c0,0) 3.462,-0.986 ; -3.679,-1.2 -3.679,-1.2 ; 3.462,-0.986 cw(c3.847,-1.096) 3.812,-0.697 ; 3.462,-0.986 3.462,-0.986 ; 3.588,0.29 3.588,0.29 ; 3.812,-0.697 ccw(c3.75,0) 4.25,0.49 ; 3.812,-0.697 3.812,-0.697 ; 4.141,0.704 ccw(c4.535,0.771) 4.25,0.49 ; 4.141,0.704 4.141,0.704 ; 4.25,0.49 4.25,0.49 ; 4.703,0.96 4.703,0.96 ; 2.438,-4.818 2.438,-4.818
Bottom Overlay:
  region: 6.026,-0.347 6.296,0.463 6.5,-1.75 7.25,-2.5 7.75,-2.5 7.75,-3.5 7,-3.5 5.9,-2.4
  lines w0.4: -5.599,-0.444 ccw(c-3.7,-0.5) -4.65,-2.146 ; -5.585,-0.742 cw(c-3.7,-0.5) -5.554,-0.087 ccw(c-5.945,0) -5.554,0.087 cw(c-3.7,0.5) -4.33,2.293 ccw(c-4.462,2.67) -4.119,2.465 cw(c0,0) -3.907,2.789 ; -4.775,-2.067 ccw(c-3.7,-0.5) -4.583,-2.182 cw(c-4.769,-2.537) -4.486,-2.254 -3.775,-2.965 ccw(c0,0) 3.101,-3.664 ccw(c0,0) 4.703,-0.96 ; -3.932,2.753 cw(c0,0) 3.677,3.085 cw(c2.183,1.591) 4.063,2.556 cw(c0,0) 4.466,1.76 cw(c3.75,0) 5.282,-1.124 cw(c0,0) 0.46,-5.38 cw(c0,0) -4.21,-3.381 ccw(c-4.522,-3.632) -4.24,-3.348 -4.666,-2.922 -4.889,-2.699 cw(c-3.7,-0.5) -6.199,-0.426 ; 3.75,0 ccw(c3.987,-0.322) 3.588,-0.29 ; 6.214,-0.42 ccw(c3.75,0) 4.93,2.204 ccw(c0,0) 4.591,2.843 ; 6.358,-1.958 6.7,-2.3 ; -6.199,-0.426 cw(c-4.148,-0.426) -6.165,-0.058 ccw(c-6.559,0.014) -6.165,0.081 cw(c-3.7,0.5) -4.597,2.833 cw(c0,0) 4.112,3.501 ; -6.199,-0.426 -6.199,-0.426 ; -4.999,-0.462 cw(c-3.7,-0.5) -4.942,-0.118 ccw(c-5.325,0) -4.942,0.118 ; -4.999,-0.462 ccw(c-3.7,-0.5) -4.156,-1.717 ; -4.999,-0.462 -4.999,-0.462 ; -4.942,0.118 cw(c-3.7,0.5) -4.099,1.737 cw(c-3.7,0.5) -3.976,1.77 ccw(c-4.061,2.161) -3.708,1.973 cw(c0,0) 4.002,1.275 cw(c3.75,0) 4.779,-0.795 ccw(c5.095,-1.04) 4.703,-0.96 ; -4.942,0.118 -4.942,0.118 ; -4.156,-1.717 cw(c-4.297,-2.092) -4.014,-1.809 -3.497,-2.326 ccw(c0,0) 4.141,-0.704 ; -4.156,-1.717 -4.156,-1.717 ; -3.679,1.2 ccw(c-3.7,0.5) -4.323,0.182 cw(c-4.68,0) -4.323,-0.182 ccw(c-3.7,-0.5) -4.345,-0.772 ccw(c-3.7,-0.5) -3.678,-1.2 cw(c-3.666,-1.6) -3.3,-1.44 ccw(c0,0) 3.588,-0.29 ; -3.679,1.2 ccw(c-3.666,1.599) -3.3,1.439 cw(c0,0) 2.55,2.541 cw(c0,0) 3.462,0.986 ; -3.679,1.2 -3.679,1.2 ; 3.462,0.986 ccw(c3.847,1.096) 3.812,0.697 ; 3.462,0.986 3.462,0.986 ; 3.588,-0.29 3.588,-0.29 ; 3.812,0.697 cw(c3.75,0) 4.25,-0.49 ; 3.812,0.697 3.812,0.697 ; 4.108,3.504 cw(c0,0) 4.112,3.501 ; 4.108,3.504 4.108,3.504 ; 4.112,3.501 ccw(c4.416,3.76) 4.129,3.481 ; 4.112,3.501 4.112,3.501 ; 4.129,3.481 cw(c2.183,1.591) 4.578,2.866 ; 4.129,3.481 4.129,3.481 ; 4.141,-0.704 cw(c4.535,-0.771) 4.25,-0.49 ; 4.141,-0.704 4.141,-0.704 ; 4.25,-0.49 4.25,-0.49 ; 4.578,2.866 ccw(c4.931,3.054) 4.591,2.843 ; 4.578,2.866 4.578,2.866 ; 4.591,2.843 4.591,2.843 ; 4.703,-0.96 4.703,-0.96 ; 2.438,4.818 2.438,4.818
Mechanical 2:
  circle w0.15: c0.046,-0.037 r3.1
  circle w0.15: c0.046,-0.037 r3.1
  lines w0.15: -9.658,-0.552 -8.158,-0.552 -8.158,-6.287 -6.704,-6.287 -6.704,-7.787 ; -9.658,0.478 -8.158,0.478 -8.158,6.213 -6.704,6.213 -6.704,7.713 ; -5.673,-7.787 -5.673,-6.287 -4.779,-6.287 -4.779,-4.797 -3.524,-4.797 ccw(c0.046,-0.037) 5.736,-1.776 ; -5.673,7.713 -5.673,6.213 -4.779,6.213 ; -4.804,6.213 -4.804,4.723 -3.524,4.723 cw(c0.046,-0.037) 3.616,4.723 4.896,4.723 4.896,6.213 ; -3.576,-4.757 ccw(c0.046,-0.037) 3.616,-4.797 4.871,-4.797 4.871,-6.287 5.765,-6.287 ; 4.871,6.213 5.765,6.213 ; 5.765,-7.787 5.765,-6.287 ; 5.765,7.713 5.765,6.213 ; 6.796,-7.787 6.796,-6.287 8.092,-6.287 8.092,-0.552 9.592,-0.552 ; 6.796,7.713 6.796,6.213 8.092,6.213 8.092,0.478 9.592,0.478 ; 5.765,-6.287 5.765,-6.287 ; 5.765,6.213 5.765,6.213
Mechanical 13:
  circle w0.15: c0,0 r3.1
  lines w0.15: -4.8,-7.4 -4.8,-4.79 -4.77,-4.76 -3.57,-4.76 ccw(c0,0) 3.57,-4.76 4.77,-4.76 4.8,-4.79 4.8,-7.4 -4.8,-7.4 ; -4.8,4.79 -4.77,4.76 -3.57,4.76 cw(c0,0) 3.57,4.76 4.77,4.76 4.8,4.79 4.8,7.4 -4.8,7.4 -4.8,4.79
3D body "ER14.6-8.5-9.3 (1).STEP": height 1.25, standoff -3, extent -4.7,-7.3 4.7,7.3

## ER14.6-8.5-9.3 SEC [mm]
pads (6):
  rrect50% 1.4x1.4 hole 0.7: 7(-7.75,5) 8(-7.75,3) 9(-7.75,1) 10(-7.75,-1) 11(-7.75,-3) 12(-7.75,-5)
via -6.25,0 diameter 0.8 hole 0.4
via -3.7,0.5 diameter 0.8 hole 0.4
via -3.7,-0.5 diameter 0.8 hole 0.4
Top Layer:
  region: -6.65,0.4 -5.8,0.4 -5.8,-1.2 -6.05,-1.45 -6.65,-0.85
  region: -3.7,-0.1 -3.62,-0.1 -3.473,-0.161 -3.361,-0.273 -3.3,-0.42 -3.3,-0.5 -3.3,-1.7 -3.425,-1.825 -3.829,-1.421 -3.894,-1.356 -3.995,-1.205 -4.064,-1.037 -4.1,-0.858 -4.1,-0.767 -4.1,-0.5 -4.1,-0.42 -4.039,-0.273 -3.927,-0.161 -3.78,-0.1
  region: -4.3,-0.3 -4.292,-0.222 -4.233,-0.078 -4.122,0.033 -3.978,0.092 -3.9,0.1 -3.7,0.1 -3.7,0.7 -4,0.7 -4.08,0.7 -4.227,0.639 -4.339,0.527 -4.4,0.38 -4.4,0.3 -4.4,-0.3
  region: -7.75,1.7 -5.386,1.7 -5.286,1.8 -5.286,1.576 -5.875,0.986 -7.736,0.986
  region: -7.75,4.3 -5.6,4.3 -5.136,3.836 -5.136,4.261 -5.888,5.014 -7.736,5.014
  region: -7.736,3.7 -5.436,3.7 -4.636,2.9 -7.336,2.9 -7.736,3.3
  lines w0.25: -5.95,-1 -5.95,0 ; -5.927,-0.99 ccw(c-3.677,-0.99) -5.268,-2.581 -3.924,-3.924 ccw(c0,0) 3.924,-3.924 ccw(c0,0) 3.924,3.924 ccw(c0,0) -3.924,3.924
  lines w0.3: -7.75,3 -4.177,3 -3.589,3.589 cw(c0,0) 3.589,3.589 cw(c0,0) 3.589,-3.589 cw(c0,0) -3.589,-3.589 -4.932,-2.245 ; -7.75,5 -6.086,5 -5.028,3.942 -3.942,3.942 ; -7.736,0.986 -5.722,0.986 cw(c-3.7,0) -4.32,2.163 ; -4.937,-2.237 cw(c-3.7,-1) -5.45,-1 -5.45,0 cw(c-3.7,0) -4.049,1.715 ; -4.584,-1.884 cw(c-3.7,-1) -4.95,-1 -4.95,0 cw(c-3.7,0) -3.809,1.245 ; -4.579,-1.892 -3.235,-3.235 ccw(c0,0) 3.235,-3.235 ccw(c0,0) 3.235,3.235 ccw(c0,0) -3.235,3.235 -4.296,2.174 ; -4.45,-0.225 -4.45,0 cw(c-3.7,0) -3.765,0.747 ; -4.23,-1.53 cw(c-3.7,-1) -4.45,-1 ; -4.225,-1.538 -2.881,-2.881 ccw(c0,0) 2.881,-2.881 ccw(c0,0) 2.881,2.881 ccw(c0,0) -2.881,2.881 ; -4.045,1.718 -2.878,2.885 ; -3.81,1.246 -2.528,2.528 cw(c0,0) 2.528,2.528 cw(c0,0) 2.528,-2.528 cw(c0,0) -2.528,-2.528 -3.7,-1.356 -3.7,-0.5 ; -3.7,-1.05 ccw(c-2.95,-1.05) -3.528,-1.528 ; -3.7,0.5 ccw(c-3.7,-0.25) -4.45,-0.25 -4.45,-1 ; -4.45,-1 -4.45,-1
  text "2-A" at -6.5,5.25 h1
Bottom Layer:
  region: -7.75,-4.3 -5.6,-4.3 -5.136,-3.836 -5.136,-4.261 -5.888,-5.014 -7.736,-5.014
  region: -7.75,-1.7 -5.386,-1.7 -5.286,-1.8 -5.286,-1.576 -5.875,-0.986 -7.736,-0.986
  region: -7.75,-4.3 -5.6,-4.3 -5.136,-3.836 -5.136,-4.261 -5.888,-5.014 -7.736,-5.014
  region: -7.736,-3.7 -5.436,-3.7 -4.636,-2.9 -7.336,-2.9 -7.736,-3.3
  region: -4.3,0.3 -4.292,0.222 -4.233,0.078 -4.122,-0.033 -3.978,-0.092 -3.9,-0.1 -3.7,-0.1 -3.7,-0.7 -4,-0.7 -4.08,-0.7 -4.227,-0.639 -4.339,-0.527 -4.4,-0.38 -4.4,-0.3 -4.4,0.3
  region: -3.7,0.1 -3.62,0.1 -3.473,0.161 -3.361,0.273 -3.3,0.42 -3.3,0.5 -3.3,1.7 -3.425,1.825 -3.829,1.421 -3.894,1.356 -3.995,1.205 -4.064,1.037 -4.1,0.858 -4.1,0.767 -4.1,0.5 -4.1,0.42 -4.039,0.273 -3.927,0.161 -3.78,0.1
  region: -6.65,-0.4 -5.8,-0.4 -5.8,1.2 -6.05,1.45 -6.65,0.85
  lines w0.25: -5.95,0 -5.95,1 ; -5.927,0.99 cw(c-3.677,0.99) -5.268,2.581 -3.924,3.924 cw(c0,0) 3.924,3.924 cw(c0,0) 3.924,-3.924 cw(c0,0) -3.924,-3.924
  lines w0.3: -7.75,-5 -6.086,-5 -5.028,-3.942 -3.942,-3.942 ; -7.736,-0.987 -5.722,-0.987 ccw(c-3.7,0) -4.32,-2.163 ; -4.937,2.237 ccw(c-3.7,1) -5.45,1 -5.45,0 ccw(c-3.7,0) -4.049,-1.715 ; -4.932,2.245 -3.589,3.588 cw(c0,0) 3.589,3.588 cw(c0,0) 3.589,-3.589 cw(c0,0) -3.589,-3.589 -3.927,-3.25 -7.5,-3.25 -7.75,-3 -4.177,-3 -3.758,-3.419 ; -4.584,1.884 ccw(c-3.7,1) -4.95,1 -4.95,0 ccw(c-3.7,0) -3.809,-1.245 ; -4.579,1.891 -3.235,3.235 cw(c0,0) 3.235,3.235 cw(c0,0) 3.235,-3.235 cw(c0,0) -3.235,-3.235 -4.296,-2.174 ; -4.45,0.225 -4.45,0 ccw(c-3.7,0) -3.765,-0.747 ; -4.23,1.53 ccw(c-3.7,1) -4.45,1 ; -4.225,1.538 -2.881,2.881 cw(c0,0) 2.881,2.881 cw(c0,0) 2.881,-2.882 cw(c0,0) -2.881,-2.882 ; -4.045,-1.718 -2.878,-2.885 ; -3.81,-1.246 -2.528,-2.528 ccw(c0,0) 2.528,-2.528 ccw(c0,0) 2.528,2.528 ccw(c0,0) -2.528,2.528 -3.7,1.356 -3.7,0.5 ; -3.7,-0.5 cw(c-3.7,0.25) -4.45,0.25 -4.45,1 ; -3.7,1.05 cw(c-2.95,1.05) -3.528,1.528 ; -4.45,1 -4.45,1
  text "2-B" at -5.25,5.25 h1
Top Overlay:
  region: -6.65,0.4 -5.8,0.4 -5.8,-1.2 -6.05,-1.45 -6.65,-0.85
  region: -6.977,1.7 -5.386,1.7 -5.286,1.8 -5.286,1.576 -5.875,0.986 -6.964,0.986
  region: -7,3.7 -5.436,3.7 -4.586,2.85 -7,2.85
  region: -7.013,4.3 -5.6,4.3 -5.136,3.836 -5.136,4.261 -5.875,5 -7,5
  region: -3.7,-0.1 -3.62,-0.1 -3.473,-0.161 -3.361,-0.273 -3.3,-0.42 -3.3,-0.5 -3.3,-1.7 -3.425,-1.825 -3.829,-1.421 -3.894,-1.356 -3.995,-1.205 -4.064,-1.037 -4.1,-0.858 -4.1,-0.767 -4.1,-0.5 -4.1,-0.42 -4.039,-0.273 -3.927,-0.161 -3.78,-0.1
  region: -4.3,-0.3 -4.292,-0.222 -4.233,-0.078 -4.122,0.033 -3.978,0.092 -3.9,0.1 -3.7,0.1 -3.7,0.7 -4,0.7 -4.08,0.7 -4.227,0.639 -4.339,0.527 -4.4,0.38 -4.4,0.3 -4.4,-0.3
  lines w0.25: -5.95,-1 -5.95,0 ; -5.927,-0.99 ccw(c-3.677,-0.99) -5.268,-2.581 -3.924,-3.924 ccw(c0,0) 3.924,-3.924 ccw(c0,0) 3.924,3.924 ccw(c0,0) -3.924,3.924
  lines w0.3: -6.8,0.986 -5.722,0.986 cw(c-3.7,0) -4.32,2.163 ; -6,3 -4.177,3 -3.589,3.589 cw(c0,0) 3.589,3.589 cw(c0,0) 3.589,-3.589 cw(c0,0) -3.589,-3.589 -4.932,-2.245 ; -5.136,4.048 -5.03,3.942 -3.942,3.942 ; -4.937,-2.237 cw(c-3.7,-1) -5.45,-1 -5.45,0 cw(c-3.7,0) -4.049,1.715 ; -4.584,-1.884 cw(c-3.7,-1) -4.95,-1 -4.95,0 cw(c-3.7,0) -3.809,1.245 ; -4.579,-1.892 -3.235,-3.235 ccw(c0,0) 3.235,-3.235 ccw(c0,0) 3.235,3.235 ccw(c0,0) -3.235,3.235 -4.296,2.174 ; -4.45,-0.225 -4.45,0 cw(c-3.7,0) -3.765,0.747 ; -4.23,-1.53 cw(c-3.7,-1) -4.45,-1 ; -4.225,-1.538 -2.881,-2.881 ccw(c0,0) 2.881,-2.881 ccw(c0,0) 2.881,2.881 ccw(c0,0) -2.881,2.881 ; -4.045,1.718 -2.878,2.885 ; -3.81,1.246 -2.528,2.528 cw(c0,0) 2.528,2.528 cw(c0,0) 2.528,-2.528 cw(c0,0) -2.528,-2.528 -3.7,-1.356 -3.7,-0.5 ; -3.7,-1.05 ccw(c-2.95,-1.05) -3.528,-1.528 ; -3.7,0.5 ccw(c-3.7,-0.25) -4.45,-0.25 -4.45,-1 ; -4.45,-1 -4.45,-1
Bottom Overlay:
  region: -4.3,0.3 -4.292,0.222 -4.233,0.078 -4.122,-0.033 -3.978,-0.092 -3.9,-0.1 -3.7,-0.1 -3.7,-0.7 -4,-0.7 -4.08,-0.7 -4.227,-0.639 -4.339,-0.527 -4.4,-0.38 -4.4,-0.3 -4.4,0.3
  region: -3.7,0.1 -3.62,0.1 -3.473,0.161 -3.361,0.273 -3.3,0.42 -3.3,0.5 -3.3,1.7 -3.425,1.825 -3.829,1.421 -3.894,1.356 -3.995,1.205 -4.064,1.037 -4.1,0.858 -4.1,0.767 -4.1,0.5 -4.1,0.42 -4.039,0.273 -3.927,0.161 -3.78,0.1
  region: -7.013,-4.3 -5.6,-4.3 -5.136,-3.836 -5.136,-4.261 -5.875,-5 -7,-5
  region: -7,-3.7 -5.436,-3.7 -4.586,-2.85 -7,-2.85
  region: -6.977,-1.7 -5.386,-1.7 -5.286,-1.8 -5.286,-1.576 -5.875,-0.986 -6.964,-0.986
  region: -6.65,-0.4 -5.8,-0.4 -5.8,1.2 -6.05,1.45 -6.65,0.85
  lines w0.25: -5.95,0 -5.95,1 ; -5.927,0.99 cw(c-3.677,0.99) -5.268,2.581 -3.924,3.924 cw(c0,0) 3.924,3.924 cw(c0,0) 3.924,-3.924 cw(c0,0) -3.924,-3.924
  lines w0.3: -6.8,-0.986 -5.722,-0.986 ccw(c-3.7,0) -4.32,-2.163 ; -6,-3 -4.177,-3 -3.589,-3.589 ccw(c0,0) 3.589,-3.589 ccw(c0,0) 3.589,3.589 ccw(c0,0) -3.589,3.589 -4.932,2.245 ; -5.136,-4.048 -5.03,-3.942 -3.942,-3.942 ; -4.937,2.237 ccw(c-3.7,1) -5.45,1 -5.45,0 ccw(c-3.7,0) -4.049,-1.715 ; -4.584,1.884 ccw(c-3.7,1) -4.95,1 -4.95,0 ccw(c-3.7,0) -3.809,-1.245 ; -4.579,1.892 -3.235,3.235 cw(c0,0) 3.235,3.235 cw(c0,0) 3.235,-3.235 cw(c0,0) -3.235,-3.235 -4.296,-2.174 ; -4.45,0.225 -4.45,0 ccw(c-3.7,0) -3.765,-0.747 ; -4.23,1.53 ccw(c-3.7,1) -4.45,1 ; -4.225,1.538 -2.881,2.881 cw(c0,0) 2.881,2.881 cw(c0,0) 2.881,-2.881 cw(c0,0) -2.881,-2.881 ; -4.045,-1.718 -2.878,-2.885 ; -3.81,-1.246 -2.528,-2.528 ccw(c0,0) 2.528,-2.528 ccw(c0,0) 2.528,2.528 ccw(c0,0) -2.528,2.528 -3.7,1.356 -3.7,0.5 ; -3.7,-0.5 cw(c-3.7,0.25) -4.45,0.25 -4.45,1 ; -3.7,1.05 cw(c-2.95,1.05) -3.528,1.528 ; -4.45,1 -4.45,1
Mechanical 1:
  region: 6,0.4 7.5,0.4 7.5,-0.4 6,-0.4
  region: -6.75,6.25 -6.75,7.25 -6,7.25 -6,6.25
  region: -6,-6.25 -6,-7.25 -6.75,-7.25 -6.75,-6.25
Mechanical 2:
  circle w0.15: c0,0 r3.1
  lines w0.15: -9.25,-0.515 -7.75,-0.515 -7.75,-6.25 -6.75,-6.25 -6.75,-7.25 ; -9.25,0.515 -7.75,0.515 -7.75,6.25 -6.75,6.25 -6.75,7.25 ; -6,-7.25 -6,-6.25 -4.825,-6.25 ; -6,7.25 -6,6.25 -4.825,6.25 -4.825,4.76 -3.57,4.76 cw(c0,0) 5.928,0.515 7.5,0.515 ; -4.85,-6.25 -4.85,-4.76 -3.57,-4.76 ccw(c0,0) 5.928,-0.515 7.5,-0.515
Mechanical 13:
  circle w0.15: c0,0 r3.1
  lines w0.15: -4.8,-7.4 4.8,-7.4 4.8,-4.79 4.77,-4.76 3.57,-4.76 cw(c0,0) -3.57,-4.76 -4.77,-4.76 -4.8,-4.79 -4.8,-7.4 ; -4.8,4.79 -4.8,7.4 4.8,7.4 4.8,4.79 4.77,4.76 3.57,4.76 ccw(c0,0) -3.57,4.76 -4.77,4.76 -4.8,4.79
3D body "ER14.6-8.5-9.3 (1).STEP": height 1.25, standoff -3, extent -4.7,-7.3 4.7,7.3

## RM6 LP TVI-1-24V [mm]
pads (12):
  round 1.3 hole 0.85: 1(7.75,-5) 2(7.75,-3) 3(7.75,-1) 4(7.75,1) 5(7.75,3) 6(7.75,5)
  round 1.4 hole 0.85: 7(-7.75,5) 8(-7.75,3) 9(-7.75,1) 10(-7.75,-1) 11(-7.75,-3) 12(-7.75,-5)
Mechanical 13:
  circle w0.254: c0,0 r3.2
  circle w0.15: c0,0 r3.1
  lines w0.15: -4.8,-7.4 -4.8,-4.79 -4.77,-4.76 -3.57,-4.76 ccw(c0,0) 3.57,-4.76 4.77,-4.76 4.8,-4.79 4.8,-7.4 -4.8,-7.4 ; -4.8,4.79 -4.77,4.76 -3.57,4.76 cw(c0,0) 3.57,4.76 4.77,4.76 4.8,4.79 4.8,7.4 -4.8,7.4 -4.8,4.79
  lines w0.2: -1.486,-9.1 1.486,-9.1 ; -1.486,-9.086 -5.577,-4.996 -5.635,-4.871 -4.103,-0.661 ; -1.486,9.086 -5.577,4.996 -5.635,4.871 -4.103,0.661 ; -1.486,9.1 1.486,9.1 ; 1.486,-9.086 5.577,-4.996 ; 1.486,9.086 5.577,4.996 ; -4.103,-0.707 ccw(c-5.982,-0.023) -4.103,0.661 ; -4.103,-0.707 ccw(c-5.982,-0.023) -4.103,0.661 ; -4.103,-0.707 ccw(c-5.982,-0.023) -4.103,0.661 ; -4.103,-0.707 ccw(c-5.982,-0.023) -4.103,0.661 ; -4.103,-0.661 ccw(c-5.982,0.023) -4.103,0.707 ; -4.103,-0.661 ccw(c-5.982,0.023) -4.103,0.707 ; -4.103,-0.661 ccw(c-5.982,0.023) -4.103,0.707 ; -4.103,-0.661 ccw(c-5.982,0.023) -4.103,0.707 ; 4.103,-0.707 cw(c5.982,-0.023) 4.103,0.661 ; 4.103,-0.707 cw(c5.982,-0.023) 4.103,0.661 ; 4.103,-0.707 cw(c5.982,-0.023) 4.103,0.661 ; 4.103,-0.707 cw(c5.982,-0.023) 4.103,0.661 ; 4.103,-0.661 cw(c5.982,0.023) 4.103,0.707 ; 4.103,-0.661 cw(c5.982,0.023) 4.103,0.707 ; 4.103,-0.661 cw(c5.982,0.023) 4.103,0.707 ; 4.103,-0.661 cw(c5.982,0.023) 4.103,0.707 ; 4.103,-0.661 5.49,-4.471 4.103,-0.661 ; 4.103,-0.661 5.635,-4.871 ; 4.103,0.661 5.635,4.871 ; 4.103,0.661 5.49,4.471 4.103,0.661 ; 5.577,-4.996 5.635,-4.871 ; 5.577,-4.996 5.635,-4.871 ; 5.577,4.996 5.635,4.871 ; 5.577,4.996 5.635,4.871
  lines w0.25: -4.5,-6.375 -7.75,-6.375 -7.75,6.323 -4.5,6.323 ; 4.5,-6.375 7.75,-6.375 7.75,6.323 4.5,6.323
  lines w0.254: -5.117,-3.411 ccw(c0,0) 5.117,-3.412 ; -5.117,3.411 cw(c0,0) 5.117,3.412
3D body "User Library-pls2-1.step": height 6.5, standoff -2.3, extent 6.75,4 8.75,6
3D body "User Library-pls2-1.step": height 6.5, standoff -2.3, extent 6.75,2 8.75,4
3D body "User Library-pls2-1.step": height 6.5, standoff -2.3, extent 6.75,0 8.75,2
3D body "User Library-pls2-1.step": height 6.5, standoff -2.3, extent 6.75,-2 8.75,0
3D body "User Library-pls2-1.step": height 6.5, standoff -2.3, extent 6.75,-4 8.75,-2
3D body "User Library-pls2-1.step": height 6.5, standoff -2.3, extent 6.75,-6 8.75,-4
3D body "User Library-pls2-1.step": height 6.5, standoff -2.3, extent -8.75,4 -6.75,6
3D body "User Library-pls2-1.step": height 6.5, standoff -2.3, extent -8.75,2 -6.75,4
3D body "User Library-pls2-1.step": height 6.5, standoff -2.3, extent -8.75,0 -6.75,2
3D body "User Library-pls2-1.step": height 6.5, standoff -2.3, extent -8.75,-2 -6.75,0
3D body "User Library-pls2-1.step": height 6.5, standoff -2.3, extent -8.75,-4 -6.75,-2
3D body "User Library-pls2-1.step": height 6.5, standoff -2.3, extent -8.75,-6 -6.75,-4
3D body: height 6.4, standoff 2.6, extent -8,-6 8,6
3D body "User Library-rm_6.step": height -0.5, standoff -5, extent -5.235,-8.9 5.235,9
3D body "User Library-rm_6.step": height 9, standoff 4.5, extent -5.235,-8.9 5.235,9

## RM6 LP TVI-1-24V - FLIPPED [mm]
pads (12):
  round 1.3 hole 0.85: 1(7.75,5) 2(7.75,3) 3(7.75,1) 4(7.75,-1) 5(7.75,-3) 6(7.75,-5)
  round 1.4 hole 0.85: 7(-7.75,-5) 8(-7.75,-3) 9(-7.75,-1) 10(-7.75,1) 11(-7.75,3) 12(-7.75,5)
Mechanical 13:
  circle w0.254: c0,0 r3.2
  circle w0.15: c0,0 r3.1
  lines w0.15: -4.8,-7.4 -4.8,-4.79 -4.77,-4.76 -3.57,-4.76 ccw(c0,0) 3.57,-4.76 4.77,-4.76 4.8,-4.79 4.8,-7.4 -4.8,-7.4 ; -4.8,4.79 -4.77,4.76 -3.57,4.76 cw(c0,0) 3.57,4.76 4.77,4.76 4.8,4.79 4.8,7.4 -4.8,7.4 -4.8,4.79
  lines w0.2: -1.486,-9.1 1.486,-9.1 ; -1.486,-9.086 -5.577,-4.996 -5.635,-4.871 -4.103,-0.661 ; -1.486,9.086 -5.577,4.996 -5.635,4.871 -4.103,0.661 ; -1.486,9.1 1.486,9.1 ; 1.486,-9.086 5.577,-4.996 ; 1.486,9.086 5.577,4.996 ; -4.103,-0.707 ccw(c-5.982,-0.023) -4.103,0.661 ; -4.103,-0.707 ccw(c-5.982,-0.023) -4.103,0.661 ; -4.103,-0.707 ccw(c-5.982,-0.023) -4.103,0.661 ; -4.103,-0.707 ccw(c-5.982,-0.023) -4.103,0.661 ; -4.103,-0.661 ccw(c-5.982,0.023) -4.103,0.707 ; -4.103,-0.661 ccw(c-5.982,0.023) -4.103,0.707 ; -4.103,-0.661 ccw(c-5.982,0.023) -4.103,0.707 ; -4.103,-0.661 ccw(c-5.982,0.023) -4.103,0.707 ; 4.103,-0.707 cw(c5.982,-0.023) 4.103,0.661 ; 4.103,-0.707 cw(c5.982,-0.023) 4.103,0.661 ; 4.103,-0.707 cw(c5.982,-0.023) 4.103,0.661 ; 4.103,-0.707 cw(c5.982,-0.023) 4.103,0.661 ; 4.103,-0.661 cw(c5.982,0.023) 4.103,0.707 ; 4.103,-0.661 cw(c5.982,0.023) 4.103,0.707 ; 4.103,-0.661 cw(c5.982,0.023) 4.103,0.707 ; 4.103,-0.661 cw(c5.982,0.023) 4.103,0.707 ; 4.103,-0.661 5.635,-4.871 ; 4.103,-0.661 5.49,-4.471 4.103,-0.661 ; 4.103,0.661 5.49,4.471 4.103,0.661 ; 4.103,0.661 5.635,4.871 ; 5.577,-4.996 5.635,-4.871 ; 5.577,-4.996 5.635,-4.871 ; 5.577,4.996 5.635,4.871 ; 5.577,4.996 5.635,4.871
  lines w0.25: -4.5,-6.375 -7.75,-6.375 -7.75,6.323 -4.5,6.323 ; 4.5,-6.375 7.75,-6.375 7.75,6.323 4.5,6.323
  lines w0.254: -5.117,-3.411 ccw(c0,0) 5.117,-3.412 ; -5.117,3.411 cw(c0,0) 5.117,3.412
3D body "User Library-rm_6.step": height 9, standoff 4.5, extent -5.235,-8.9 5.235,9
3D body "User Library-rm_6.step": height -0.5, standoff -5, extent -5.235,-8.9 5.235,9
3D body: height 6.4, standoff 2.6, extent -8,-6 8,6
3D body "User Library-pls2-1.step": height 6.5, standoff -2.3, extent -8.75,-6 -6.75,-4
3D body "User Library-pls2-1.step": height 6.5, standoff -2.3, extent -8.75,-4 -6.75,-2
3D body "User Library-pls2-1.step": height 6.5, standoff -2.3, extent -8.75,-2 -6.75,0
3D body "User Library-pls2-1.step": height 6.5, standoff -2.3, extent -8.75,0 -6.75,2
3D body "User Library-pls2-1.step": height 6.5, standoff -2.3, extent -8.75,2 -6.75,4
3D body "User Library-pls2-1.step": height 6.5, standoff -2.3, extent -8.75,4 -6.75,6
3D body "User Library-pls2-1.step": height 6.5, standoff -2.3, extent 6.75,-6 8.75,-4
3D body "User Library-pls2-1.step": height 6.5, standoff -2.3, extent 6.75,-4 8.75,-2
3D body "User Library-pls2-1.step": height 6.5, standoff -2.3, extent 6.75,-2 8.75,0
3D body "User Library-pls2-1.step": height 6.5, standoff -2.3, extent 6.75,0 8.75,2
3D body "User Library-pls2-1.step": height 6.5, standoff -2.3, extent 6.75,2 8.75,4
3D body "User Library-pls2-1.step": height 6.5, standoff -2.3, extent 6.75,4 8.75,6

## RM6 LP TVI-1-24V-PRI1 [mm]
pads (12):
  round 1.3 hole 0.85: 1(7.75,-5) 2(7.75,-3) 3(7.75,-1) 4(7.75,1) 5(7.75,3) 6(7.75,5)
  round 1.4 hole 0.85: 7(-7.75,5) 8(-7.75,3) 9(-7.75,1) 10(-7.75,-1) 11(-7.75,-3) 12(-7.75,-5)
via 3.85,0 diameter 0.8 hole 0.5
Top Layer:
  region: 6.4,-3.9 4.85,-2.35 5.05,-2.15 5.9,-2.15 6.75,-3 6.75,-3.5 7.5,-4.25 7.75,-4.25 7.75,-5.5 6.4,-5.5 6.4,-4.6
  lines w0.4: 3.75,0 ccw(c0,0) 0,3.75 ccw(c0,0) -3.75,0 ccw(c0,0) 3.668,-0.779 ccw(c3.85,0) 4.306,0.658 ; 4.126,-1.378 cw(c0,0) -4.35,0 cw(c0,0) 0,4.35 cw(c0,0) 4.285,0.747 ; 4.131,-1.371 ccw(c3.85,0) 4.858,0.972 ; 4.587,-1.861 cw(c0,0) -4.95,0 cw(c0,0) 0,4.95 cw(c0,0) 4.848,1 ; 4.603,-1.853 ccw(c3.85,0) 5.399,1.266 ; 5.028,-2.35 cw(c0,0) -5.55,0 cw(c0,0) 0,5.55 cw(c0,0) 5.403,1.269
Bottom Layer:
  region: 6.025,-1.951 6.025,-1.043 6.5,-0.916 6.5,-1.75 7.25,-2.5 7.75,-2.5 7.75,-3.5 7,-3.5 6.025,-2.525
  lines w0.4: 3.75,0 cw(c0,0) 0,-3.75 cw(c0,0) -3.75,0 cw(c0,0) 3.668,0.779 cw(c3.85,0) 4.306,-0.658 ; 4.126,1.378 ccw(c0,0) -4.35,0 ccw(c0,0) 0,-4.35 ccw(c0,0) 4.285,-0.747 ; 4.131,1.371 cw(c3.85,0) 4.858,-0.972 ; 4.587,1.861 ccw(c0,0) -4.95,0 ccw(c0,0) 0,-4.95 ccw(c0,0) 4.848,-1 ; 4.603,1.853 cw(c3.85,0) 5.399,-1.266 ; 5.045,2.314 ccw(c0,0) -5.55,0 ccw(c0,0) 0,-5.55 ccw(c0,0) 5.403,-1.269 ; 5.057,2.303 cw(c3.85,0) 6.221,-1.068
Mechanical 2:
  circle w0.102: c0,0 r3.275
  lines w0.102: -4.978,-3.556 ccw(c-5.329,-4.289) -6.142,-4.289 -6.142,-6.25 -7.75,-6.25 -7.75,0 -7.75,6.25 -6.142,6.25 -6.142,4.289 ccw(c-5.329,4.289) -4.978,3.556 ; -4.96,-3.543 ccw(c0,0) 4.961,-3.543 ; -4.96,3.543 cw(c0,0) 4.961,3.543 ; 4.978,-3.556 cw(c5.329,-4.289) 6.142,-4.289 6.142,-6.25 7.75,-6.25 7.75,0 7.75,6.25 6.142,6.25 6.142,4.289 cw(c5.329,4.289) 4.978,3.556
Mechanical 13:
  circle w0.254: c0,0 r3.2
  lines w0.2: -1.486,-9.1 1.486,-9.1 ; -1.486,-9.086 -5.577,-4.996 -5.635,-4.871 -4.103,-0.661 ; -1.486,9.086 -5.577,4.996 -5.635,4.871 -4.103,0.661 ; -1.486,9.1 1.486,9.1 ; 1.486,-9.086 5.577,-4.996 ; 1.486,9.086 5.577,4.996 ; -4.103,-0.707 ccw(c-5.982,-0.023) -4.103,0.661 ; -4.103,-0.707 ccw(c-5.982,-0.023) -4.103,0.661 ; -4.103,-0.707 ccw(c-5.982,-0.023) -4.103,0.661 ; -4.103,-0.707 ccw(c-5.982,-0.023) -4.103,0.661 ; -4.103,-0.661 ccw(c-5.982,0.023) -4.103,0.707 ; -4.103,-0.661 ccw(c-5.982,0.023) -4.103,0.707 ; -4.103,-0.661 ccw(c-5.982,0.023) -4.103,0.707 ; -4.103,-0.661 ccw(c-5.982,0.023) -4.103,0.707 ; 4.103,-0.707 cw(c5.982,-0.023) 4.103,0.661 ; 4.103,-0.707 cw(c5.982,-0.023) 4.103,0.661 ; 4.103,-0.707 cw(c5.982,-0.023) 4.103,0.661 ; 4.103,-0.707 cw(c5.982,-0.023) 4.103,0.661 ; 4.103,-0.661 cw(c5.982,0.023) 4.103,0.707 ; 4.103,-0.661 cw(c5.982,0.023) 4.103,0.707 ; 4.103,-0.661 cw(c5.982,0.023) 4.103,0.707 ; 4.103,-0.661 cw(c5.982,0.023) 4.103,0.707 ; 4.103,-0.661 5.49,-4.471 4.103,-0.661 ; 4.103,-0.661 5.635,-4.871 ; 4.103,0.661 5.635,4.871 ; 4.103,0.661 5.49,4.471 4.103,0.661 ; 5.577,-4.996 5.635,-4.871 ; 5.577,-4.996 5.635,-4.871 ; 5.577,4.996 5.635,4.871 ; 5.577,4.996 5.635,4.871
  lines w0.25: -4.5,-6.375 -7.75,-6.375 -7.75,6.323 -4.5,6.323 ; 4.5,-6.375 7.75,-6.375 7.75,6.323 4.5,6.323
  lines w0.254: -5.117,-3.411 ccw(c0,0) 5.117,-3.412 ; -5.117,3.411 cw(c0,0) 5.117,3.412
3D body "User Library-rm_6.step": height 4, standoff -0.5, extent -5.235,-8.9 5.235,9
3D body "User Library-rm_6.step": height 4, standoff -0.5, extent -5.235,-8.9 5.235,9

## RM6 LP TVI-1-24V-PRI2 [mm]
pads (12):
  round 1.3 hole 0.85: 1(7.75,-5) 2(7.75,-3) 3(7.75,-1) 4(7.75,1) 5(7.75,3) 6(7.75,5)
  round 1.4 hole 0.85: 7(-7.75,5) 8(-7.75,3) 9(-7.75,1) 10(-7.75,-1) 11(-7.75,-3) 12(-7.75,-5)
via 5.5,-1.75 diameter 0.8 hole 0.5
via 5.5,1.5 diameter 0.8 hole 0.5
Top Layer:
  lines w0.25: 3.145,3.223 ccw(c0,-0.1) -4.575,-0.1 ccw(c0,-0.1) 0,-4.675 ccw(c0,-0.1) 4.575,-0.1 cw(c4.925,-0.1) 4.925,0.25 5.5,0.25 ccw(c5.5,1.5) 5.5,2.75 4.608,2.75 2.982,2.75 2.978,2.755 ccw(c0,-0.1) -4.125,-0.1 ccw(c0,-0.1) 0,-4.225 ccw(c0,-0.1) 4.125,-0.1 cw(c4.95,-0.1) 4.95,0.725 5.5,0.725 ccw(c5.5,1.5) 5.5,2.275 4.457,2.275 2.808,2.275 2.783,2.301 ccw(c0,-0.1) -3.675,-0.1 ccw(c0,-0.1) 0,-3.775 ccw(c0,-0.1) 3.674,0.002 3.674,0.23 cw(c4.944,0.23) 4.944,1.5 5.5,1.5 cw(c5.4,1.5) 5.4,1.4 ; 3.147,3.225 6.006,3.225 7.75,4.969 7.75,5 ; 5.5,-1.75 cw(c6.25,-1.75) 6.25,-1 7.75,-1 ccw(c7.702,-1) 7.702,-0.952
Bottom Layer:
  lines w0.25: 5.4,-1.75 3.236,-1.742 cw(c0,0) -3.675,0 cw(c0,0) 0,3.675 cw(c0,0) 3.674,-0.102 3.674,-0.192 ccw(c4.457,-0.192) 4.457,-0.975 4.525,-0.975 5.5,-0.975 cw(c5.5,-1.75) 5.5,-2.525 4.457,-2.525 3.257,-2.531 cw(c0,0) -4.125,0 cw(c0,0) 0,4.125 cw(c0,0) 4.125,0 4.125,-0.017 ccw(c4.608,-0.017) 4.608,-0.5 5.5,-0.5 cw(c5.5,-1.75) 5.5,-3 4.608,-3 3.446,-3.017 3.331,-3.136 cw(c0,0) -4.575,0 cw(c0,0) 0,4.575 cw(c0,0) 4.475,0.952 ccw(c5.252,0.952) 5.252,0.175 6.877,0.175 ccw(c6.877,1) 7.702,1 ; 5.4,-1.65 cw(c5.4,-1.75) 5.5,-1.75 ; 5.5,1.5 5.5,1.73 cw(c6.77,1.73) 6.77,3 7.75,3 ; 7.702,0.952 ccw(c7.702,1) 7.75,1
Mechanical 2:
  circle w0.102: c0,0 r3.275
  lines w0.102: -4.978,-3.556 ccw(c-5.329,-4.289) -6.142,-4.289 -6.142,-6.25 -7.75,-6.25 -7.75,0 -7.75,6.25 -6.142,6.25 -6.142,4.289 ccw(c-5.329,4.289) -4.978,3.556 ; -4.96,-3.543 ccw(c0,0) 4.961,-3.543 ; -4.96,3.543 cw(c0,0) 4.961,3.543 ; 4.978,-3.556 cw(c5.329,-4.289) 6.142,-4.289 6.142,-6.25 7.75,-6.25 7.75,0 7.75,6.25 6.142,6.25 6.142,4.289 cw(c5.329,4.289) 4.978,3.556
Mechanical 13:
  circle w0.254: c0,0 r3.2
  lines w0.2: -1.486,-9.1 1.486,-9.1 ; -1.486,-9.086 -5.577,-4.996 -5.635,-4.871 -4.103,-0.661 ; -1.486,9.086 -5.577,4.996 -5.635,4.871 -4.103,0.661 ; -1.486,9.1 1.486,9.1 ; 1.486,-9.086 5.577,-4.996 ; 1.486,9.086 5.577,4.996 ; -4.103,-0.707 ccw(c-5.982,-0.023) -4.103,0.661 ; -4.103,-0.707 ccw(c-5.982,-0.023) -4.103,0.661 ; -4.103,-0.707 ccw(c-5.982,-0.023) -4.103,0.661 ; -4.103,-0.707 ccw(c-5.982,-0.023) -4.103,0.661 ; -4.103,-0.661 ccw(c-5.982,0.023) -4.103,0.707 ; -4.103,-0.661 ccw(c-5.982,0.023) -4.103,0.707 ; -4.103,-0.661 ccw(c-5.982,0.023) -4.103,0.707 ; -4.103,-0.661 ccw(c-5.982,0.023) -4.103,0.707 ; 4.103,-0.707 cw(c5.982,-0.023) 4.103,0.661 ; 4.103,-0.707 cw(c5.982,-0.023) 4.103,0.661 ; 4.103,-0.707 cw(c5.982,-0.023) 4.103,0.661 ; 4.103,-0.707 cw(c5.982,-0.023) 4.103,0.661 ; 4.103,-0.661 cw(c5.982,0.023) 4.103,0.707 ; 4.103,-0.661 cw(c5.982,0.023) 4.103,0.707 ; 4.103,-0.661 cw(c5.982,0.023) 4.103,0.707 ; 4.103,-0.661 cw(c5.982,0.023) 4.103,0.707 ; 4.103,-0.661 5.635,-4.871 ; 4.103,-0.661 5.49,-4.471 4.103,-0.661 ; 4.103,0.661 5.49,4.471 4.103,0.661 ; 4.103,0.661 5.635,4.871 ; 5.577,-4.996 5.635,-4.871 ; 5.577,-4.996 5.635,-4.871 ; 5.577,4.996 5.635,4.871 ; 5.577,4.996 5.635,4.871
  lines w0.25: -4.5,-6.375 -7.75,-6.375 -7.75,6.323 -4.5,6.323 ; 4.5,-6.375 7.75,-6.375 7.75,6.323 4.5,6.323
  lines w0.254: -5.117,-3.411 ccw(c0,0) 5.117,-3.412 ; -5.117,3.411 cw(c0,0) 5.117,3.412
3D body "User Library-rm_6.step": height 4, standoff -0.5, extent -5.235,-8.9 5.235,9
3D body "User Library-rm_6.step": height 4, standoff -0.5, extent -5.235,-8.9 5.235,9